# EAGLE library part CPU-AGB-LQFP128 (library arcadetv)
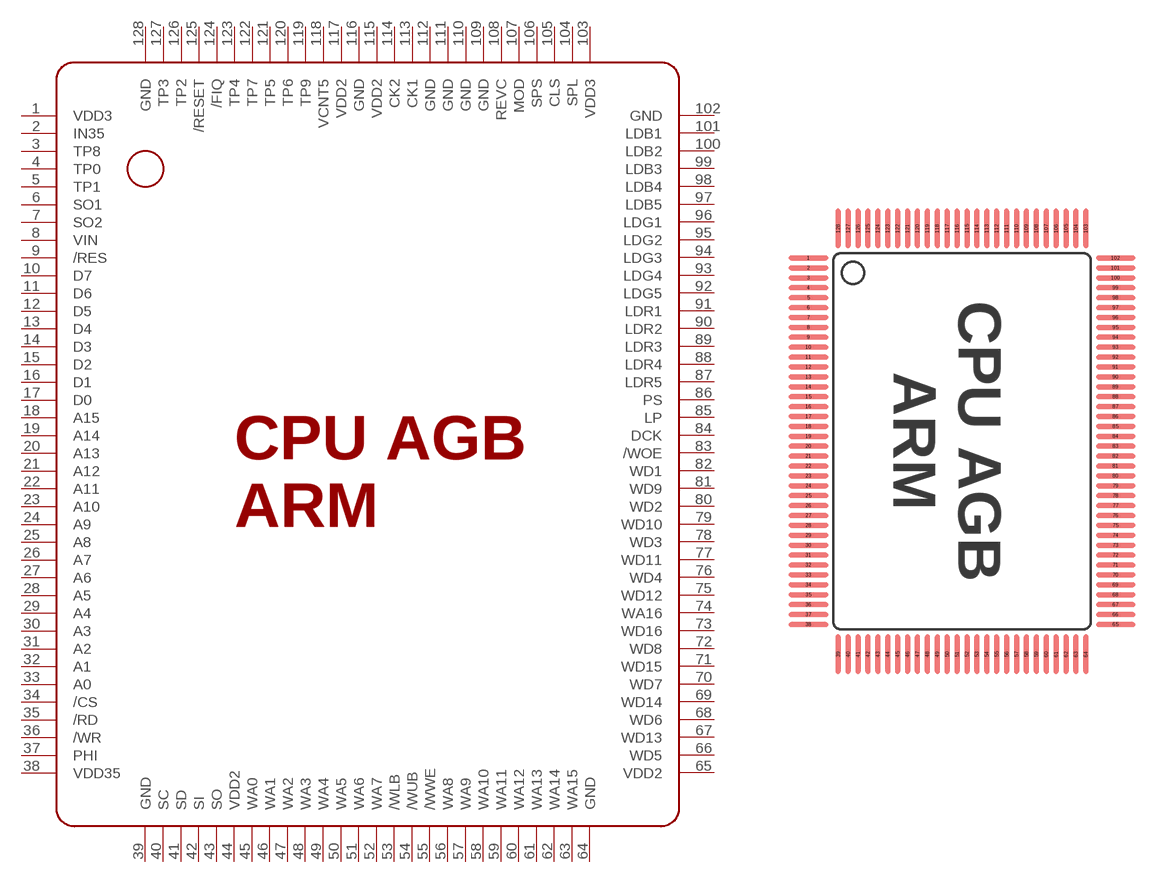
[diagram p12: symbol with the pads of CPU-AGB-LQFP128; footprint CPU-AGB-LQFP128]

Designator prefix -

## CPU-AGB-LQFP128  [CPU-AGB-LQFP128]
1  VDD3
2  IN35
3  TP8
4  TP0
5  TP1
6  SO1
7  SO2
8  VIN
9  /RES
10  D7
11  D6
12  D5
13  D4
14  D3
15  D2
16  D1
17  D0
18  A15
19  A14
20  A13
21  A12
22  A11
23  A10
24  A9
25  A8
26  A7
27  A6
28  A5
29  A4
30  A3
31  A2
32  A1
33  A0
34  /CS
35  /RD
36  /WR
37  PHI
38  VDD35
39  GND
40  SC
41  SD
42  SI
43  SO
44  VDD2
45  WA0
46  WA1
47  WA2
48  WA3
49  WA4
50  WA5
51  WA6
52  WA7
53  /WLB
54  /WUB
55  /WWE
56  WA8
57  WA9
58  WA10
59  WA11
60  WA12
61  WA13
62  WA14
63  WA15
64  GND
65  VDD2
66  WD5
67  WD13
68  WD6
69  WD14
70  WD7
71  WD15
72  WD8
73  WD16
74  WA16
75  WD12
76  WD4
77  WD11
78  WD3
79  WD10
80  WD2
81  WD9
82  WD1
83  /WOE
84  DCK
85  LP
86  PS
87  LDR5
88  LDR4
89  LDR3
90  LDR2
91  LDR1
92  LDG5
93  LDG4
94  LDG3
95  LDG2
96  LDG1
97  LDB5
98  LDB4
99  LDB3
100  LDB2
101  LDB1
102  GND
103  VDD3
104  SPL
105  CLS
106  SPS
107  MOD
108  REVC
109  GND
110  GND
111  GND
112  GND
113  CK1
114  CK2
115  VDD2
116  GND
117  VDD2
118  VCNT5
119  TP9
120  TP6
121  TP5
122  TP7
123  TP4
124  /FIQ
125  /RESET
126  TP2
127  TP3
128  GND

## Footprint CPU-AGB-LQFP128 (pad centres in mm)
smd 2 x 0.254: 1 -7,9.5; 2 -7,9; 3 -7,8.5; 4 -7,8; 5 -7,7.5; 6 -7,7; 7 -7,6.5; 8 -7,6; 9 -7,5.5; 10 -7,5; 11 -7,4.5; 12 -7,4; 13 -7,3.5; 14 -7,3; 15 -7,2.5; 16 -7,2; 17 -7,1.5; 18 -7,1; 19 -7,0.5; 20 -7,0; 21 -7,-0.5; 22 -7,-1; 23 -7,-1.5; 24 -7,-2; 25 -7,-2.5; 26 -7,-3; 27 -7,-3.5; 28 -7,-4; 29 -7,-4.5; 30 -7,-5; 31 -7,-5.5; 32 -7,-6; 33 -7,-6.5; 34 -7,-7; 35 -7,-7.5; 36 -7,-8; 37 -7,-8.5; 38 -7,-9; 65 8.5,-9; 66 8.5,-8.5; 67 8.5,-8; 68 8.5,-7.5; 69 8.5,-7; 70 8.5,-6.5; 71 8.5,-6; 72 8.5,-5.5; 73 8.5,-5; 74 8.5,-4.5; 75 8.5,-4; 76 8.5,-3.5; 77 8.5,-3; 78 8.5,-2.5; 79 8.5,-2; 80 8.5,-1.5; 81 8.5,-1; 82 8.5,-0.5; 83 8.5,0; 84 8.5,0.5; 85 8.5,1; 86 8.5,1.5; 87 8.5,2; 88 8.5,2.5; 89 8.5,3; 90 8.5,3.5; 91 8.5,4; 92 8.5,4.5; 93 8.5,5; 94 8.5,5.5; 95 8.5,6; 96 8.5,6.5; 97 8.5,7; 98 8.5,7.5; 99 8.5,8; 100 8.5,8.5; 101 8.5,9; 102 8.5,9.5
smd 0.254 x 2: 39 -5.5,-10.5; 40 -5,-10.5; 41 -4.5,-10.5; 42 -4,-10.5; 43 -3.5,-10.5; 44 -3,-10.5; 45 -2.5,-10.5; 46 -2,-10.5; 47 -1.5,-10.5; 48 -1,-10.5; 49 -0.5,-10.5; 50 0,-10.5; 51 0.5,-10.5; 52 1,-10.5; 53 1.5,-10.5; 54 2,-10.5; 55 2.5,-10.5; 56 3,-10.5; 57 3.5,-10.5; 58 4,-10.5; 59 4.5,-10.5; 60 5,-10.5; 61 5.5,-10.5; 62 6,-10.5; 63 6.5,-10.5; 64 7,-10.5; 103 7,11; 104 6.5,11; 105 6,11; 106 5.5,11; 107 5,11; 108 4.5,11; 109 4,11; 110 3.5,11; 111 3,11; 112 2.5,11; 113 2,11; 114 1.5,11; 115 1,11; 116 0.5,11; 117 0,11; 118 -0.5,11; 119 -1,11; 120 -1.5,11; 121 -2,11; 122 -2.5,11; 123 -3,11; 124 -3.5,11; 125 -4,11; 126 -4.5,11; 127 -5,11; 128 -5.5,11